# Altium footprint library 24tssop65.PcbLib: 1 footprints
Each footprint in its own frame and in the unit in brackets; x right, y up, seen from the top. Pads: shape width x height; smd on the part's side, far side on the other; paste and mask are expansions set on the pad; w line width, h text height; cw(c..) or ccw(c..) is an arc to the next point about the centre after c.
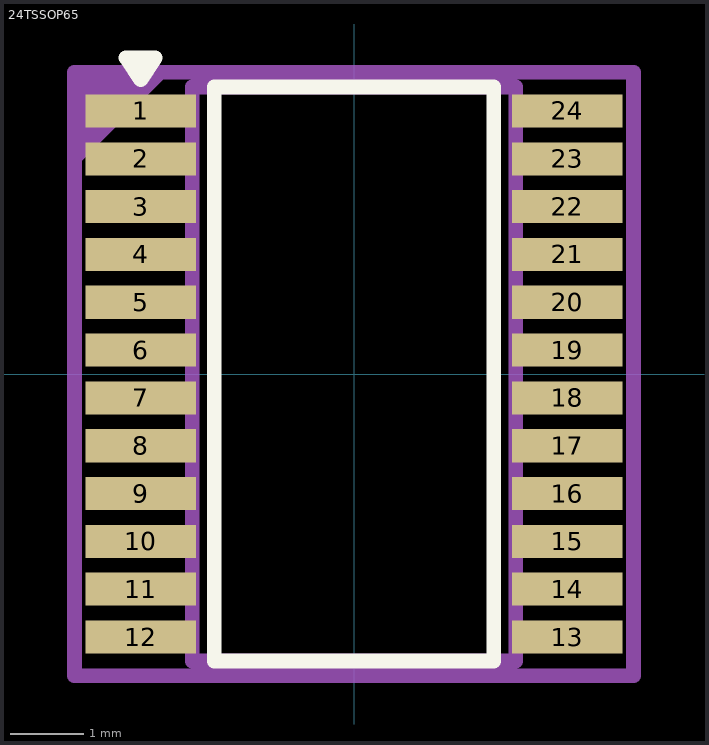
[diagram p0: the footprint, top view; thin cyan lines are the x and y axes]

## 24TSSOP65 [mm] "TSOP, 24-Leads, Body 7.9x4.5mm (max), Pitch 0.65mm, IPC High Density"
height 1.2
pads (24):
  rect 1.5x0.45 smd: 1(-2.9,3.575) 2(-2.9,2.925) 3(-2.9,2.275) 4(-2.9,1.625) 5(-2.9,0.975) 6(-2.9,0.325) 7(-2.9,-0.325) 8(-2.9,-0.975) 9(-2.9,-1.625) 10(-2.9,-2.275) 11(-2.9,-2.925) 12(-2.9,-3.575) 13(2.9,-3.575) 14(2.9,-2.925) 15(2.9,-2.275) 16(2.9,-1.625) 17(2.9,-0.975) 18(2.9,-0.325) 19(2.9,0.325) 20(2.9,0.975) 21(2.9,1.625) 22(2.9,2.275) 23(2.9,2.925) 24(2.9,3.575)
Top Overlay:
  region: -3.1,4.3 -2.9,4 -2.7,4.3
  lines w0.2: -3.1,4.3 -2.9,4 -2.7,4.3 -3.1,4.3 ; -1.9,-3.9 -1.9,3.9 1.9,3.9 1.9,-3.9 -1.9,-3.9
Top Designator:
  text ".Designator" at -1.25,-0.25 h0.6
Top 3D Body:
  lines w0.2: -2.2,-3.9 -2.2,3.9 2.2,3.9 2.2,-3.9 -2.2,-3.9
Top Courtyard:
  region: -3.8,4.1 -2.5,4.1 -3.8,2.8
  lines w0.2: -3.8,-4.1 -3.8,4.1 3.8,4.1 3.8,-4.1 -3.8,-4.1
3D body "24TSSOP65.stp": height 1.13, standoff 0, extent -3.2,-3.9 3.2,3.9